# EAGLE library part XS1-L02A-QF124 (library xmos)
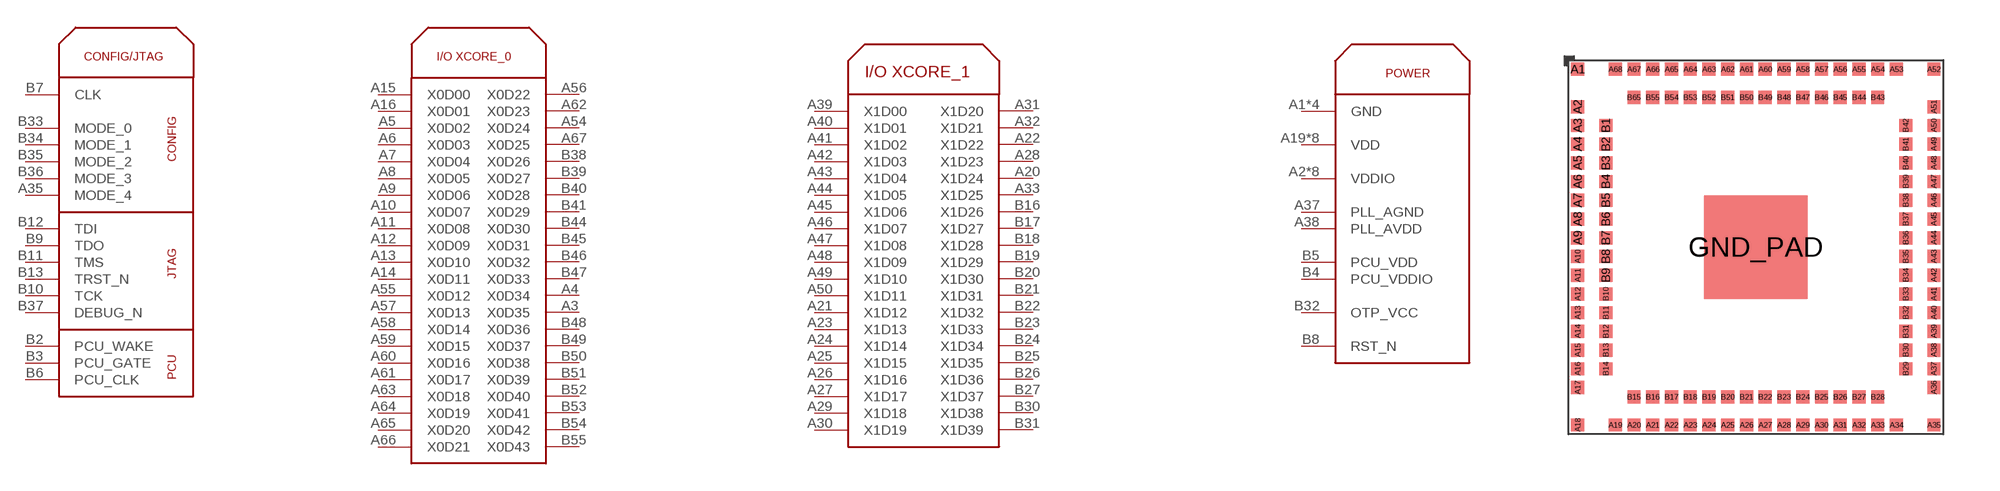
[diagram p4: symbol with the pads of QFP124; footprint QFP124]

Designator prefix -; gates G$1=XS1-L02A-QF124_CONFIG/JTAG G$2=XS1-L02A-QF124_I/O_XCORE_0 G$3=XS1-L02A-QF124_I/O_XCORE_1 G$4=XS1-L02A-QF124_POWER

## XS1-L02A-QF124  [QFP124]
A1  G$4:GND
A2  G$4:VDDIO
A3  G$2:X0D35
A4  G$2:X0D34
A5  G$2:X0D02
A6  G$2:X0D03
A7  G$2:X0D04
A8  G$2:X0D05
A9  G$2:X0D06
A10  G$2:X0D07
A11  G$2:X0D08
A12  G$2:X0D09
A13  G$2:X0D10
A14  G$2:X0D11
A15  G$2:X0D00
A16  G$2:X0D01
A17  G$4:VDDIO
A18  G$4:GND
A19  G$4:VDD
A20  G$3:X1D24
A21  G$3:X1D12
A22  G$3:X1D22
A23  G$3:X1D13
A24  G$3:X1D14
A25  G$3:X1D15
A26  G$3:X1D16
A27  G$3:X1D17
A28  G$3:X1D23
A29  G$3:X1D18
A30  G$3:X1D19
A31  G$3:X1D20
A32  G$3:X1D21
A33  G$3:X1D25
A34  G$4:VDD
A35  G$1:MODE_4
A36  G$4:VDDIO
A37  G$4:PLL_AGND
A38  G$4:PLL_AVDD
A39  G$3:X1D00
A40  G$3:X1D01
A41  G$3:X1D02
A42  G$3:X1D03
A43  G$3:X1D04
A44  G$3:X1D05
A45  G$3:X1D06
A46  G$3:X1D07
A47  G$3:X1D08
A48  G$3:X1D09
A49  G$3:X1D10
A50  G$3:X1D11
A51  G$4:VDDIO
A52  G$4:GND
A53  G$4:VDD
A54  G$2:X0D24
A55  G$2:X0D12
A56  G$2:X0D22
A57  G$2:X0D13
A58  G$2:X0D14
A59  G$2:X0D15
A60  G$2:X0D16
A61  G$2:X0D17
A62  G$2:X0D23
A63  G$2:X0D18
A64  G$2:X0D19
A65  G$2:X0D20
A66  G$2:X0D21
A67  G$2:X0D25
A68  G$4:VDD
B1  G$4:VDDIO
B2  G$1:PCU_WAKE
B3  G$1:PCU_GATE
B4  G$4:PCU_VDDIO
B5  G$4:PCU_VDD
B6  G$1:PCU_CLK
B7  G$1:CLK
B8  G$4:RST_N
B9  G$1:TDO
B10  G$1:TCK
B11  G$1:TMS
B12  G$1:TDI
B13  G$1:TRST_N
B14  G$4:VDDIO
B15  G$4:VDD
B16  G$3:X1D26
B17  G$3:X1D27
B18  G$3:X1D28
B19  G$3:X1D29
B20  G$3:X1D30
B21  G$3:X1D31
B22  G$3:X1D32
B23  G$3:X1D33
B24  G$3:X1D34
B25  G$3:X1D35
B26  G$3:X1D36
B27  G$3:X1D37
B28  G$4:VDD
B29  G$4:VDDIO
B30  G$3:X1D38
B31  G$3:X1D39
B32  G$4:OTP_VCC
B33  G$1:MODE_0
B34  G$1:MODE_1
B35  G$1:MODE_2
B36  G$1:MODE_3
B37  G$1:DEBUG_N
B38  G$2:X0D26
B39  G$2:X0D27
B40  G$2:X0D28
B41  G$2:X0D29
B42  G$4:VDDIO
B43  G$4:VDD
B44  G$2:X0D30
B45  G$2:X0D31
B46  G$2:X0D32
B47  G$2:X0D33
B48  G$2:X0D36
B49  G$2:X0D37
B50  G$2:X0D38
B51  G$2:X0D39
B52  G$2:X0D40
B53  G$2:X0D41
B54  G$2:X0D42
B55  G$2:X0D43
B65  G$4:VDD
GND_PAD  G$4:GND

## Footprint QFP124 (pad centres in mm)
smd 0.35 x 0.35: A1 -4.75,4.75; A2 -4.75,3.75; A3 -4.75,3.25; A4 -4.75,2.75; A5 -4.75,2.25; A6 -4.75,1.75; A7 -4.75,1.25; A8 -4.75,0.75; A9 -4.75,0.25; A10 -4.75,-0.25; A11 -4.75,-0.75; A12 -4.75,-1.25; A13 -4.75,-1.75; A14 -4.75,-2.25; A15 -4.75,-2.75; A16 -4.75,-3.25; A17 -4.75,-3.75; A18 -4.75,-4.75; A19 -3.75,-4.75; A20 -3.25,-4.75; A21 -2.75,-4.75; A22 -2.25,-4.75; A23 -1.75,-4.75; A24 -1.25,-4.75; A25 -0.75,-4.75; A26 -0.25,-4.75; A27 0.25,-4.75; A28 0.75,-4.75; A29 1.25,-4.75; A30 1.75,-4.75; A31 2.25,-4.75; A32 2.75,-4.75; A33 3.25,-4.75; A34 3.75,-4.75; A35 4.75,-4.75; A36 4.75,-3.75; A37 4.75,-3.25; A38 4.75,-2.75; A39 4.75,-2.25; A40 4.75,-1.75; A41 4.75,-1.25; A42 4.75,-0.75; A43 4.75,-0.25; A44 4.75,0.25; A45 4.75,0.75; A46 4.75,1.25; A47 4.75,1.75; A48 4.75,2.25; A49 4.75,2.75; A50 4.75,3.25; A51 4.75,3.75; A52 4.75,4.75; A53 3.75,4.75; A54 3.25,4.75; A55 2.75,4.75; A56 2.25,4.75; A57 1.75,4.75; A58 1.25,4.75; A59 0.75,4.75; A60 0.25,4.75; A61 -0.25,4.75; A62 -0.75,4.75; A63 -1.25,4.75; A64 -1.75,4.75; A65 -2.25,4.75; A66 -2.75,4.75; A67 -3.25,4.75; A68 -3.75,4.75; B1 -4,3.25; B2 -4,2.75; B3 -4,2.25; B4 -4,1.75; B5 -4,1.25; B6 -4,0.75; B7 -4,0.25; B8 -4,-0.25; B9 -4,-0.75; B10 -4,-1.25; B11 -4,-1.75; B12 -4,-2.25; B13 -4,-2.75; B14 -4,-3.25; B15 -3.25,-4; B16 -2.75,-4; B17 -2.25,-4; B18 -1.75,-4; B19 -1.25,-4; B20 -0.75,-4; B21 -0.25,-4; B22 0.25,-4; B23 0.75,-4; B24 1.25,-4; B25 1.75,-4; B26 2.25,-4; B27 2.75,-4; B28 3.25,-4; B29 4,-3.25; B30 4,-2.75; B31 4,-2.25; B32 4,-1.75; B33 4,-1.25; B34 4,-0.75; B35 4,-0.25; B36 4,0.25; B37 4,0.75; B38 4,1.25; B39 4,1.75; B40 4,2.25; B41 4,2.75; B42 4,3.25; B43 3.25,4; B44 2.75,4; B45 2.25,4; B46 1.75,4; B47 1.25,4; B48 0.75,4; B49 0.25,4; B50 -0.25,4; B51 -0.75,4; B52 -1.25,4; B53 -1.75,4; B54 -2.25,4; B55 -2.75,4; B65 -3.25,4
smd 2.75 x 2.75: GND_PAD 0,0